# EAGLE library part PIKIT2_PRG (library 1AA_Stofer)
PIN HEADER
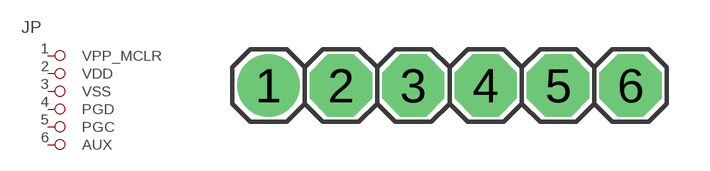
[diagram p29: symbol with the pads of 1X06; footprint 1X06]

Designator prefix JP

## PIKIT2_PRG  [1X06]
1  VPP_MCLR  pas
2  VDD  pas
3  VSS  pas
4  PGD  pas
5  PGC  pas
6  AUX  pas

## Footprint 1X06 (pad centres in mm)
PIN HEADER
drill 1.016 pad 2.184: 1 -6.35,0
drill 1.016 pad 2.184 octagon: 2 -3.81,0; 3 -1.27,0; 4 1.27,0; 5 3.81,0; 6 6.35,0